# EAGLE library part DDS:AD9910,EVALBOARD (library QuantumOptics)
AD9910 DDS Eval Board, Rev:G, Analog Devices 1GSPS 14-bit 3.3V, can ramp to fixed stop frequency. http://www.analog.com/en/rfif-components/direct-digital-synthesis-dds/ad9910/products/product.html
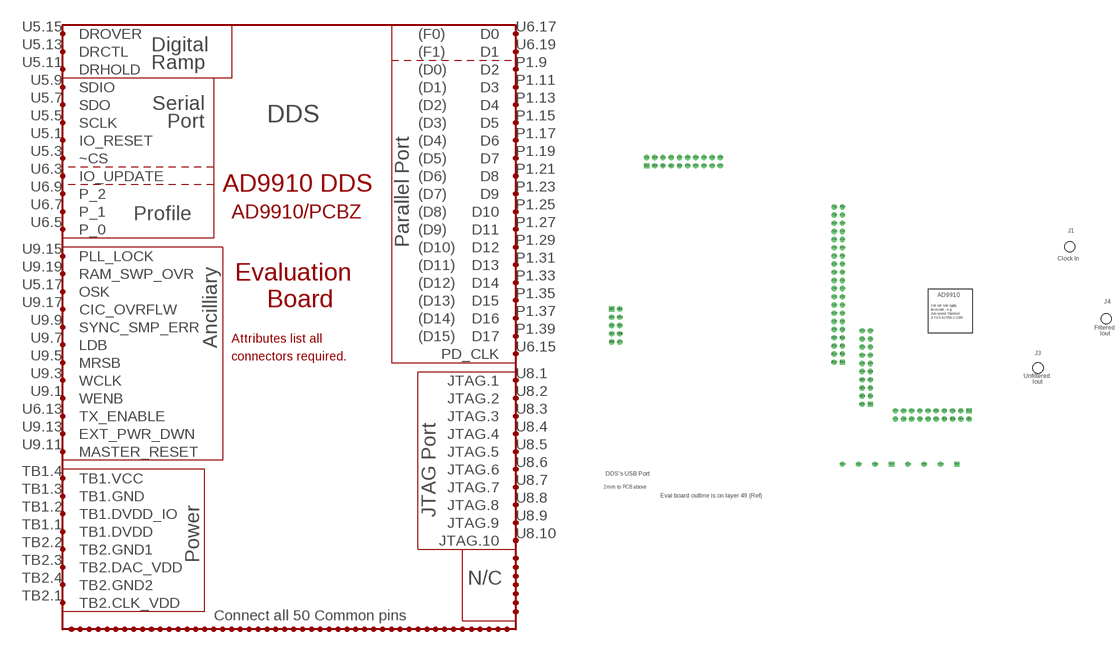
[diagram p129: symbol with the pads of DDS:AD9910,EVALBOARD; footprint DDS:AD9910,EVALBOARD]

Designator prefix DDS

## DDS:AD9910,EVALBOARD (P1: P1: Samtec SSW-120-01-G-D; TB1-2: TB1,2: Pheonix 1792032; U569: U5,6,9: Samtec SSW-110-01-G-D; U8: U8: Samtec SSW-108-01-G-D)  [DDS:AD9910,EVALBOARD]
P1.1  NC1  nc
P1.2  G1
P1.3  NC2  nc
P1.4  G2
P1.5  NC3  nc
P1.6  G3
P1.7  NC4  nc
P1.8  G4
P1.9  D2  in
P1.10  G5
P1.11  D3  in
P1.12  G6
P1.13  D4  in
P1.14  G7
P1.15  D5  in
P1.16  G8
P1.17  D6  in
P1.18  G9
P1.19  D7  in
P1.20  G10
P1.21  D8  in
P1.22  G11
P1.23  D9  in
P1.24  G12
P1.25  D10  in
P1.26  G13
P1.27  D11  in
P1.28  G14
P1.29  D12  in
P1.30  G15
P1.31  D13  in
P1.32  G16
P1.33  D14  in
P1.34  G17
P1.35  D15  in
P1.36  G18
P1.37  D16  in
P1.38  G19
P1.39  D17  in
P1.40  G20
TB1.1  TB1.DVDD
TB1.2  TB1.DVDD_IO
TB1.3  TB1.GND
TB1.4  TB1.VCC
TB2.1  TB2.CLK_VDD
TB2.2  TB2.GND1
TB2.3  TB2.DAC_VDD
TB2.4  TB2.GND2
U5.1  IO_RESET  in
U5.2  G31
U5.3  ~CS  in
U5.4  G32
U5.5  SCLK  pas
U5.6  G33
U5.7  SDO  pas
U5.8  G34
U5.9  SDIO  pas
U5.10  G35
U5.11  DRHOLD  pas
U5.12  G36
U5.13  DRCTL  pas
U5.14  G37
U5.15  DROVER  pas
U5.16  G38
U5.17  OSK  in
U5.18  G39
U5.19  NC7  nc
U5.20  G40
U6.1  NC5  nc
U6.2  G21
U6.3  IO_UPDATE  in
U6.4  G22
U6.5  P_0  in
U6.6  G23
U6.7  P_1  in
U6.8  G24
U6.9  P_2  in
U6.10  G25
U6.11  NC6  nc
U6.12  G26
U6.13  TX_ENABLE  in
U6.14  G27
U6.15  PD_CLK  out
U6.16  G28
U6.17  D0  in
U6.18  G29
U6.19  D1  in
U6.20  G30
U8.1  JTAG.1  in
U8.2  JTAG.2  in
U8.3  JTAG.3  in
U8.4  JTAG.4  in
U8.5  JTAG.5  in
U8.6  JTAG.6  in
U8.7  JTAG.7  in
U8.8  JTAG.8  in
U8.9  JTAG.9  in
U8.10  JTAG.10  in
U9.1  WENB  pas
U9.2  G41
U9.3  WCLK  pas
U9.4  G42
U9.5  MRSB  pas
U9.6  G43
U9.7  LDB  pas
U9.8  G44
U9.9  SYNC_SMP_ERR  out
U9.10  G45
U9.11  MASTER_RESET  in
U9.12  G46
U9.13  EXT_PWR_DWN  in
U9.14  G47
U9.15  PLL_LOCK  out
U9.16  G48
U9.17  CIC_OVRFLW  pas
U9.18  G49
U9.19  RAM_SWP_OVR  out
U9.20  G50

## Footprint DDS:AD9910,EVALBOARD (pad centres in mm)
AD9910 DDS Eval Board, Rev:G, Analog Devices 1GSPS 14-bit 3.3V, can ramp to fixed stop frequency. This is top view with eval below motherboard. http://www.analog.com/en/rfif-components/direct-digital-synthesis-dds/ad9910/products/product.html. Note that the schematic and user manual disagree on pin numbering for TB1-2 (power) but that the physical locations have been confirmed with the picture of the PCB in the user manual.
drill 0.965 pad 1.651 square: P1.1 74.5,46.75; TB1.1 89.74,15.104; TB2.1 110.06,15.104; U5.1 113.806,31.701; U6.1 83.208,33.702; U8.1 2.807,63.254; U9.1 13.697,107.8
drill 0.965 pad 1.651: P1.2 71.96,46.75; P1.3 74.5,49.29; P1.4 71.96,49.29; P1.5 74.5,51.83; P1.6 71.96,51.83; P1.7 74.5,54.37; P1.8 71.96,54.37; P1.9 74.5,56.91; P1.10 71.96,56.91; P1.11 74.5,59.45; P1.12 71.96,59.45; P1.13 74.5,61.99; P1.14 71.96,61.99; P1.15 74.5,64.53; P1.16 71.96,64.53; P1.17 74.5,67.07; P1.18 71.96,67.07; P1.19 74.5,69.61; P1.20 71.96,69.61; P1.21 74.5,72.15; P1.22 71.96,72.15; P1.23 74.5,74.69; P1.24 71.96,74.69; P1.25 74.5,77.23; P1.26 71.96,77.23; P1.27 74.5,79.77; P1.28 71.96,79.77; P1.29 74.5,82.31; P1.30 71.96,82.31; P1.31 74.5,84.85; P1.32 71.96,84.85; P1.33 74.5,87.39; P1.34 71.96,87.39; P1.35 74.5,89.93; P1.36 71.96,89.93; P1.37 74.5,92.47; P1.38 71.96,92.47; P1.39 74.5,95.01; P1.40 71.96,95.01; TB1.2 84.66,15.104; TB1.3 79.58,15.104; TB1.4 74.5,15.104; TB2.2 104.98,15.104; TB2.3 99.9,15.104; TB2.4 94.82,15.104; U5.2 113.806,29.161; U5.3 111.266,31.701; U5.4 111.266,29.161; U5.5 108.726,31.701; U5.6 108.726,29.161; U5.7 106.186,31.701; U5.8 106.186,29.161; U5.9 103.646,31.701; U5.10 103.646,29.161; U5.11 101.106,31.701; U5.12 101.106,29.161; U5.13 98.566,31.701; U5.14 98.566,29.161; U5.15 96.026,31.701; U5.16 96.026,29.161; U5.17 93.486,31.701; U5.18 93.486,29.161; U5.19 90.946,31.701; U5.20 90.946,29.161; U6.2 80.668,33.702; U6.3 83.208,36.242; U6.4 80.668,36.242; U6.5 83.208,38.782; U6.6 80.668,38.782; U6.7 83.208,41.322; U6.8 80.668,41.322; U6.9 83.208,43.862; U6.10 80.668,43.862; U6.11 83.208,46.402; U6.12 80.668,46.402; U6.13 83.208,48.942; U6.14 80.668,48.942; U6.15 83.208,51.482; U6.16 80.668,51.482; U6.17 83.208,54.022; U6.18 80.668,54.022; U6.19 83.208,56.562; U6.20 80.668,56.562; U8.2 5.347,63.254; U8.3 2.807,60.714; U8.4 5.347,60.714; U8.5 2.807,58.174; U8.6 5.347,58.174; U8.7 2.807,55.634; U8.8 5.347,55.634; U8.9 2.807,53.094; U8.10 5.347,53.094; U9.2 13.697,110.34; U9.3 16.237,107.8; U9.4 16.237,110.34; U9.5 18.777,107.8; U9.6 18.777,110.34; U9.7 21.317,107.8; U9.8 21.317,110.34; U9.9 23.857,107.8; U9.10 23.857,110.34; U9.11 26.397,107.8; U9.12 26.397,110.34; U9.13 28.937,107.8; U9.14 28.937,110.34; U9.15 31.477,107.8; U9.16 31.477,110.34; U9.17 34.017,107.8; U9.18 34.017,110.34; U9.19 36.557,107.8; U9.20 36.557,110.34
hole 3.175 at 135.3,45
hole 3.175 at 156.5,60.25
hole 3.175 at 145.1,82.6